# Altium footprint library MMSD914T1G.PcbLib: 1 footprints
Each footprint in its own frame and in the unit in brackets; x right, y up, seen from the top. Pads: shape width x height; smd on the part's side, far side on the other; paste and mask are expansions set on the pad; w line width, h text height; cw(c..) or ccw(c..) is an arc to the next point about the centre after c.
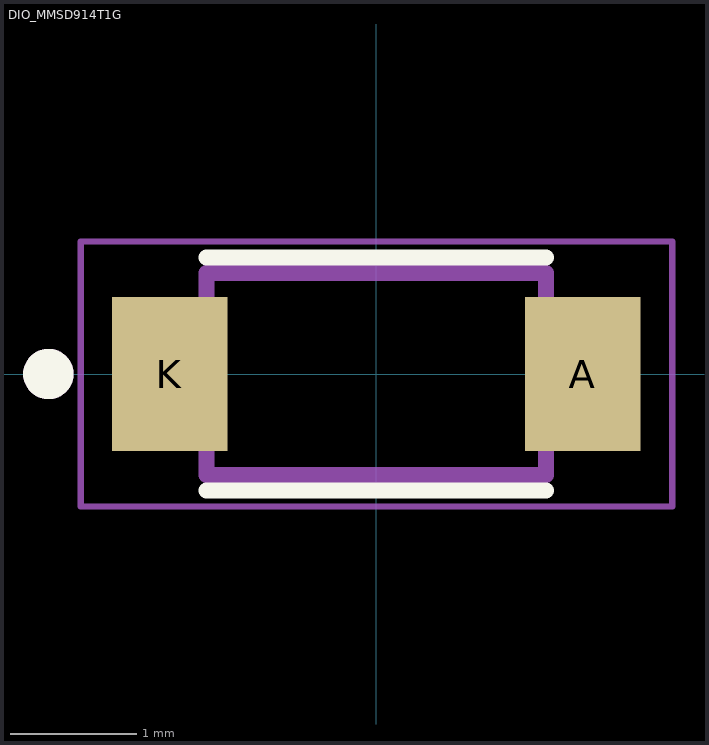
[diagram p0: the footprint, top view; thin cyan lines are the x and y axes]

## DIO_MMSD914T1G [mm]
pads (2):
  rect 0.915x1.22 smd: A(1.637,0) K(-1.637,0)
Top Overlay:
  circle w0.2: c-2.6,0 r0.1
  lines w0.127: -1.345,-0.924 1.345,-0.924 ; -1.345,0.924 1.345,0.924
Mechanical 13:
  circle w0.2: c-2.6,0 r0.1
  lines w0.127: -1.345,-0.8 1.345,-0.8 1.345,0.8 -1.345,0.8 -1.345,-0.8
Mechanical 15:
  lines w0.05: -2.345,-1.05 2.345,-1.05 2.345,1.05 -2.345,1.05 -2.345,-1.05
3D body "step_temp.STEP": height 1.35, standoff 0, extent -1.841,-0.8 1.841,0.8